# Altium footprint library 15uH_Inductor.PcbLib: 1 footprints
Each footprint in its own frame and in the unit in brackets; x right, y up, seen from the top. Pads: shape width x height; smd on the part's side, far side on the other; paste and mask are expansions set on the pad; w line width, h text height; cw(c..) or ccw(c..) is an arc to the next point about the centre after c.
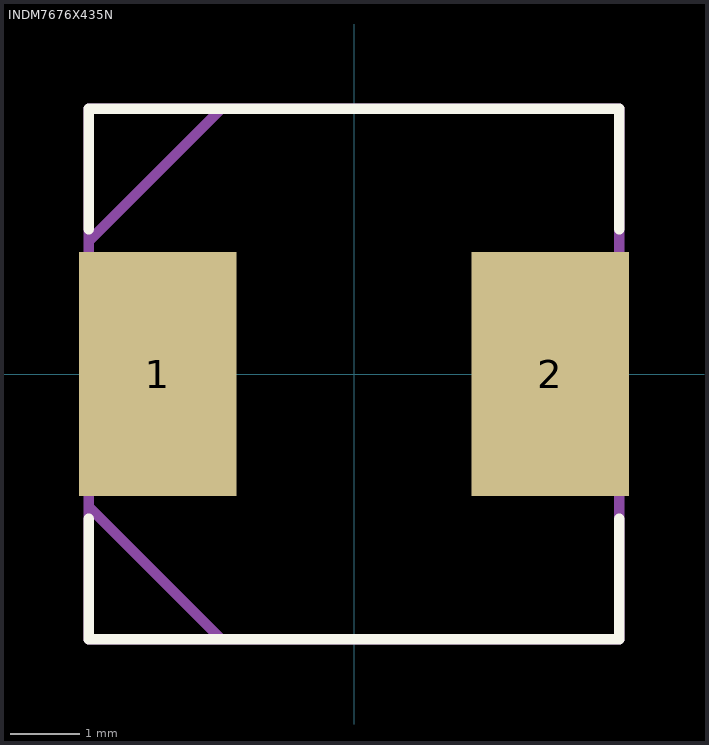
[diagram p0: the footprint, top view; thin cyan lines are the x and y axes]

## INDM7676X435N [mil]
pads (2):
  rect 89x138 smd: 1(-111,0) 2(111,0)
Top Overlay:
  lines w6: -150,-82 -150,-150 150,-150 150,-82 ; -150,82 -150,150 150,150 150,82
Assembly Top:
  lines w6: -150,-75 -75,-150 ; -150,75 -75,150 ; -150,-150 -150,150 150,150 150,-150 -150,-150
3D body "step_temp.STEP": height 171.26, standoff 0, extent -149.61,-149.61 149.61,149.61